# EAGLE library part ADP7105 (library 74xx)
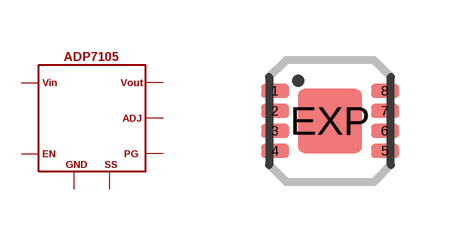
[diagram p0: symbol with the pads of LFCSP8; footprint LFCSP8]

Designator prefix LDO?

## ADP7105  [LFCSP8]
1  1
2  2
3  3
4  4
5  5
6  3
7  7
8  8
EXP  3

## Footprint LFCSP8 (pad centres in mm)
8-Lead Lead Frame Chip Scale Package LFCSP_VD 3 mm × 3 mm Body, Very Thin, Dual Lead Source: http://www.analog.com/static/imported-files/data_sheets/AD8597_8599.pdf
smd 0.7 x 0.35: 1 -1.375,0.75; 2 -1.375,0.25; 3 -1.375,-0.25; 4 -1.375,-0.75; 5 1.375,-0.75; 6 1.375,-0.25; 7 1.375,0.25; 8 1.375,0.75
smd 1.6 x 1.6: EXP 0,0